# Altium schematic symbol library TAJB226K016RNJ.SchLib: 1 symbol
Pins are listed as number, name and electrical type; pins without a type are passive.

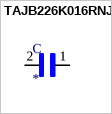
[diagram p0: symbol TAJB226K016RNJ]

## TAJB226K016RNJ
designator C
22ÂµF Molded Tantalum Capacitors 16V 1411 _3528 Metric_, 1210 2.3Ohm; MP: TAJB226K016RNJ; MF: AVX; SnapEDA_Link: https://www.snapeda.com/parts/TAJB226K016RNJ/AVX/view-part/384434/?ref=snap; Price: None; Availability: Unavailable; Value: *; Package: 1210 AVX
footprint CAPPC3528X210N
pins: 1, 2